# Altium schematic symbol library 1725753.SchLib: 1 symbol
Pins are listed as number, name and electrical type; pins without a type are passive.

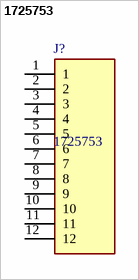
[diagram p0: symbol 1725753]

## 1725753
designator J?
Fixed Terminal Blocks 12P 2.54mm 90DEG; Manufacturer_Name: Phoenix Contact; Geometry.Height: 8.65mm; Mouser Part Number: 651-1725753; Mouser Price/Stock: https://www.mouser.co.uk/ProductDetail/Phoenix-Contact/1725753?qs=W3wJikR1%252BS65YMGoWFXwRA%3D%3D; Manufacturer_Part_Number: 1725753; Datasheet Link: https://datasheet.datasheetarchive.com/originals/distributors/SFDatasheet-2/sf-00050612.pdf
footprint 1725753
pins: 1, 2, 3, 4, 5, 6, 7, 8, 9, 10, 11, 12